# Altium footprint library WE WR_COM 692121430000.PcbLib: 1 footprints
Each footprint in its own frame and in the unit in brackets; x right, y up, seen from the top. Pads: shape width x height; smd on the part's side, far side on the other; paste and mask are expansions set on the pad; w line width, h text height; cw(c..) or ccw(c..) is an arc to the next point about the centre after c.
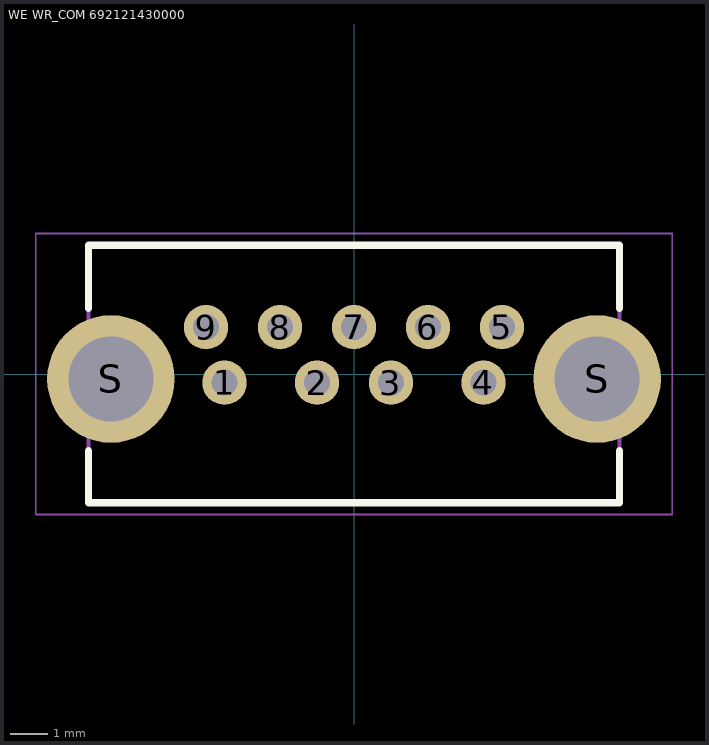
[diagram p0: the footprint, top view; thin cyan lines are the x and y axes]

## WE WR_COM 692121430000 [mm] "USB 3.0 Type A Vertical THT"
height 15
pads (11):
  round 1.2 hole 0.7: 1(-3.5,-0.235) 2(-1,-0.235) 3(1,-0.235) 4(3.5,-0.235) 5(4,1.265) 6(2,1.265) 7(0,1.265) 8(-2,1.265) 9(-4,1.265)
  round 3.45 hole 2.3: S(-6.57,-0.135) S(6.57,-0.135)
Top Overlay:
  lines w0.2: -7.175,-2.075 -7.175,-3.475 7.175,-3.475 7.175,-2.075 ; -7.175,1.775 -7.175,3.475 7.175,3.475 7.175,1.775
Top Assembly:
  lines w0.1: -7.175,-3.475 7.175,-3.475 7.175,3.475 -7.175,3.475 -7.175,-3.475
Top Courtyard:
  lines w0.05: -8.6,-3.8 -8.6,3.8 8.6,3.8 8.6,-3.8 -8.6,-3.8
Top Designator:
  text ".Designator" at -7.498,-0.5 h1.5
3D body "692121430000.stp": height 15.03, standoff -3.74, extent -7.8,-3.475 7.8,3.475